# Altium footprint library PcbLib_EFM1_Touch.PcbLib: 1 footprints
Each footprint in its own frame and in the unit in brackets; x right, y up, seen from the top. Pads: shape width x height; smd on the part's side, far side on the other; paste and mask are expansions set on the pad; w line width, h text height; cw(c..) or ccw(c..) is an arc to the next point about the centre after c.
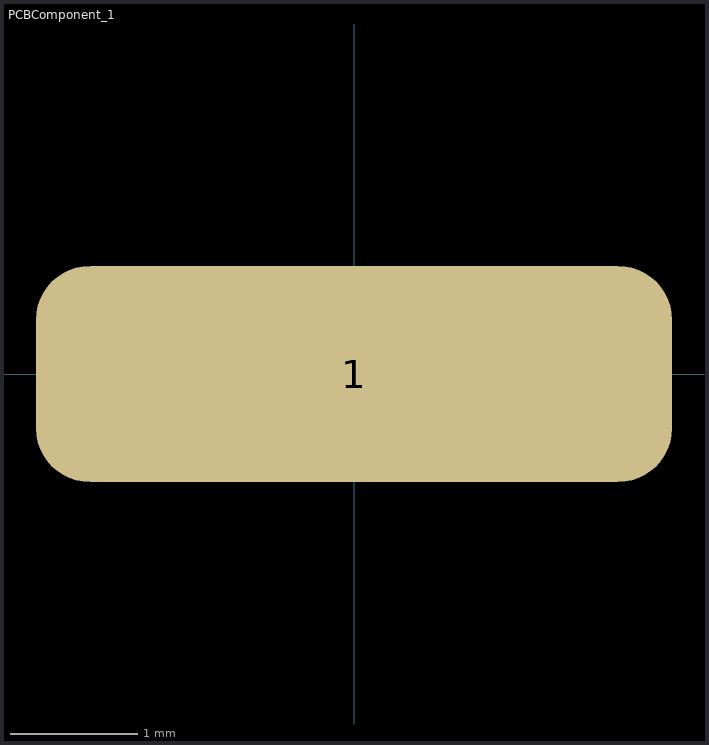
[diagram p0: the footprint, top view; thin cyan lines are the x and y axes]

## PCBComponent_1 [mm]
pads (1):
  rrect50% 5x1.7 smd: 1(0,0)
3D body: height 0.01, standoff 0, extent -2.5,-0.85 2.5,0.85